# EAGLE library part 1825289-1 (library Common-Parts-Library-Eagle)
Switch Slide ON None ON DPDT Top Slide 0.3A 125VAC PC Pins Bracket Mount/Through Hole Tray
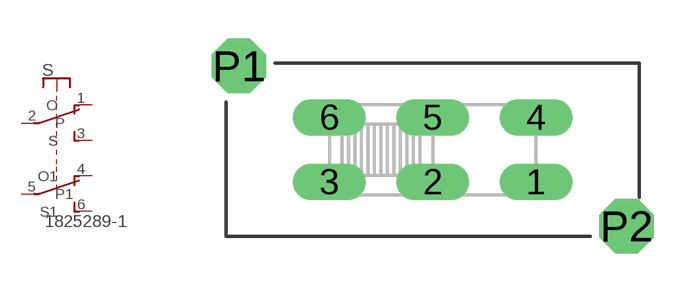
[diagram p0: symbol with the pads of SW_1825289-1; footprint SW_1825289-1]

Designator prefix S

## 1825289-1 (MANUFACTURER: TE Connectivity)  [SW_1825289-1]
1  O  pas
2  P  pas
3  S  pas
4  O1  pas
5  P1  pas
6  S1  pas

## Footprint SW_1825289-1 (pad centres in mm)
drill 0.9 long: 1 4,-1.25; 2 0,-1.25; 3 -4,-1.25; 4 4,1.25; 5 0,1.25; 6 -4,1.25
drill 1.4 octagon: P1 -7.5,3.25; P2 7.5,-2.95